# EAGLE library part 82C55 (library 68komputer)
82C55 – Programmable Peripheral Interface Datasheet <https://www.renesas.com/us/en/www/doc/datasheet/82c55a.pdf>
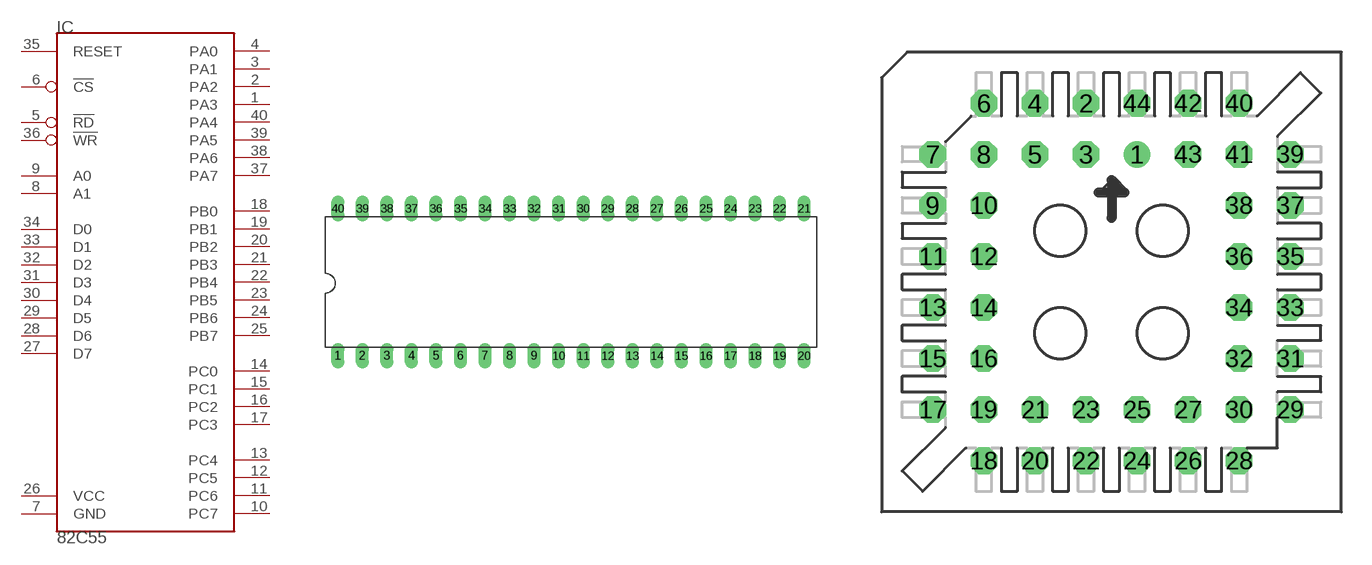
[diagram p37: symbol with the pads of DIL40; footprints DIL40, PLCC-S44]

Designator prefix IC

## 82C55DIL40 (VALUE: 82C55)  [DIL40]
1  PA3
2  PA2
3  PA1
4  PA0
5  !RD  in
6  !CS  in
7  GND  pwr
8  A1  in
9  A0  in
10  PC7
11  PC6
12  PC5
13  PC4
14  PC0
15  PC1
16  PC2
17  PC3
18  PB0
19  PB1
20  PB2
21  PB3
22  PB4
23  PB5
24  PB6
25  PB7
26  VCC  pwr
27  D7
28  D6
29  D5
30  D4
31  D3
32  D2
33  D1
34  D0
35  RESET  in
36  !WR  in
37  PA7
38  PA6
39  PA5
40  PA4

## 82C55PLCC44-SOCKET (VALUE: 82C55)  [PLCC-S44]
2  PA3
3  PA2
4  PA1
5  PA0
6  !RD  in
7  !CS  in
8  GND  pwr
9  A1  in
10  A0  in
11  PC7
13  PC6
14  PC5
15  PC4
16  PC0
17  PC1
18  PC2
19  PC3
20  PB0
21  PB1
22  PB2
24  PB3
25  PB4
26  PB5
27  PB6
28  PB7
29  VCC  pwr
30  D7
31  D6
32  D5
33  D4
35  D3
36  D2
37  D1
38  D0
39  RESET  in
40  !WR  in
41  PA7
42  PA6
43  PA5
44  PA4

## 82C55PLCC44 (VALUE: 82C55)  [PLCC44S]
Pads as for PLCC-S44

## Footprint DIL40 (pad centres in mm)
Dual In Line Package
drill 0.813 long: 1 -24.13,-7.62; 2 -21.59,-7.62; 3 -19.05,-7.62; 4 -16.51,-7.62; 5 -13.97,-7.62; 6 -11.43,-7.62; 7 -8.89,-7.62; 8 -6.35,-7.62; 9 -3.81,-7.62; 10 -1.27,-7.62; 11 1.27,-7.62; 12 3.81,-7.62; 13 6.35,-7.62; 14 8.89,-7.62; 15 11.43,-7.62; 16 13.97,-7.62; 17 16.51,-7.62; 18 19.05,-7.62; 19 21.59,-7.62; 20 24.13,-7.62; 21 24.13,7.62; 22 21.59,7.62; 23 19.05,7.62; 24 16.51,7.62; 25 13.97,7.62; 26 11.43,7.62; 27 8.89,7.62; 28 6.35,7.62; 29 3.81,7.62; 30 1.27,7.62; 31 -1.27,7.62; 32 -3.81,7.62; 33 -6.35,7.62; 34 -8.89,7.62; 35 -11.43,7.62; 36 -13.97,7.62; 37 -16.51,7.62; 38 -19.05,7.62; 39 -21.59,7.62; 40 -24.13,7.62

## Footprint PLCC-S44 (pad centres in mm)
Plastic Leaded Chip Carrier Socked
drill 0.813: 1 1.27,6.35
drill 0.813 octagon: 2 -1.27,8.89; 3 -1.27,6.35; 4 -3.81,8.89; 5 -3.81,6.35; 6 -6.35,8.89; 7 -8.89,6.35; 8 -6.35,6.35; 9 -8.89,3.81; 10 -6.35,3.81; 11 -8.89,1.27; 12 -6.35,1.27; 13 -8.89,-1.27; 14 -6.35,-1.27; 15 -8.89,-3.81; 16 -6.35,-3.81; 17 -8.89,-6.35; 18 -6.35,-8.89; 19 -6.35,-6.35; 20 -3.81,-8.89; 21 -3.81,-6.35; 22 -1.27,-8.89; 23 -1.27,-6.35; 24 1.27,-8.89; 25 1.27,-6.35; 26 3.81,-8.89; 27 3.81,-6.35; 28 6.35,-8.89; 29 8.89,-6.35; 30 6.35,-6.35; 31 8.89,-3.81; 32 6.35,-3.81; 33 8.89,-1.27; 34 6.35,-1.27; 35 8.89,1.27; 36 6.35,1.27; 37 8.89,3.81; 38 6.35,3.81; 39 8.89,6.35; 40 6.35,8.89; 41 6.35,6.35; 42 3.81,8.89; 43 3.81,6.35; 44 1.27,8.89

## Footprint PLCC44S (pad centres in mm)
PLASTIC LEADED CHIP CARRIER square
smd 0.6 x 2.2: 1 0,8.1; 2 -1.27,8.1; 3 -2.54,8.1; 4 -3.81,8.1; 5 -5.08,8.1; 6 -6.35,8.1; 18 -6.35,-8.1; 19 -5.08,-8.1; 20 -3.81,-8.1; 21 -2.54,-8.1; 22 -1.27,-8.1; 23 0,-8.1; 24 1.27,-8.1; 25 2.54,-8.1; 26 3.81,-8.1; 27 5.08,-8.1; 28 6.35,-8.1; 40 6.35,8.1; 41 5.08,8.1; 42 3.81,8.1; 43 2.54,8.1; 44 1.27,8.1
smd 2.2 x 0.6: 7 -8.1,6.35; 8 -8.1,5.08; 9 -8.1,3.81; 10 -8.1,2.54; 11 -8.1,1.27; 12 -8.1,0; 13 -8.1,-1.27; 14 -8.1,-2.54; 15 -8.1,-3.81; 16 -8.1,-5.08; 17 -8.1,-6.35; 29 8.1,-6.35; 30 8.1,-5.08; 31 8.1,-3.81; 32 8.1,-2.54; 33 8.1,-1.27; 34 8.1,0; 35 8.1,1.27; 36 8.1,2.54; 37 8.1,3.81; 38 8.1,5.08; 39 8.1,6.35